# Altium footprint library 主板.PcbLib: 22 footprints (part 1 of 2)
Each footprint in its own frame and in the unit in brackets; x right, y up, seen from the top. Pads: shape width x height; smd on the part's side, far side on the other; paste and mask are expansions set on the pad; w line width, h text height; cw(c..) or ccw(c..) is an arc to the next point about the centre after c.
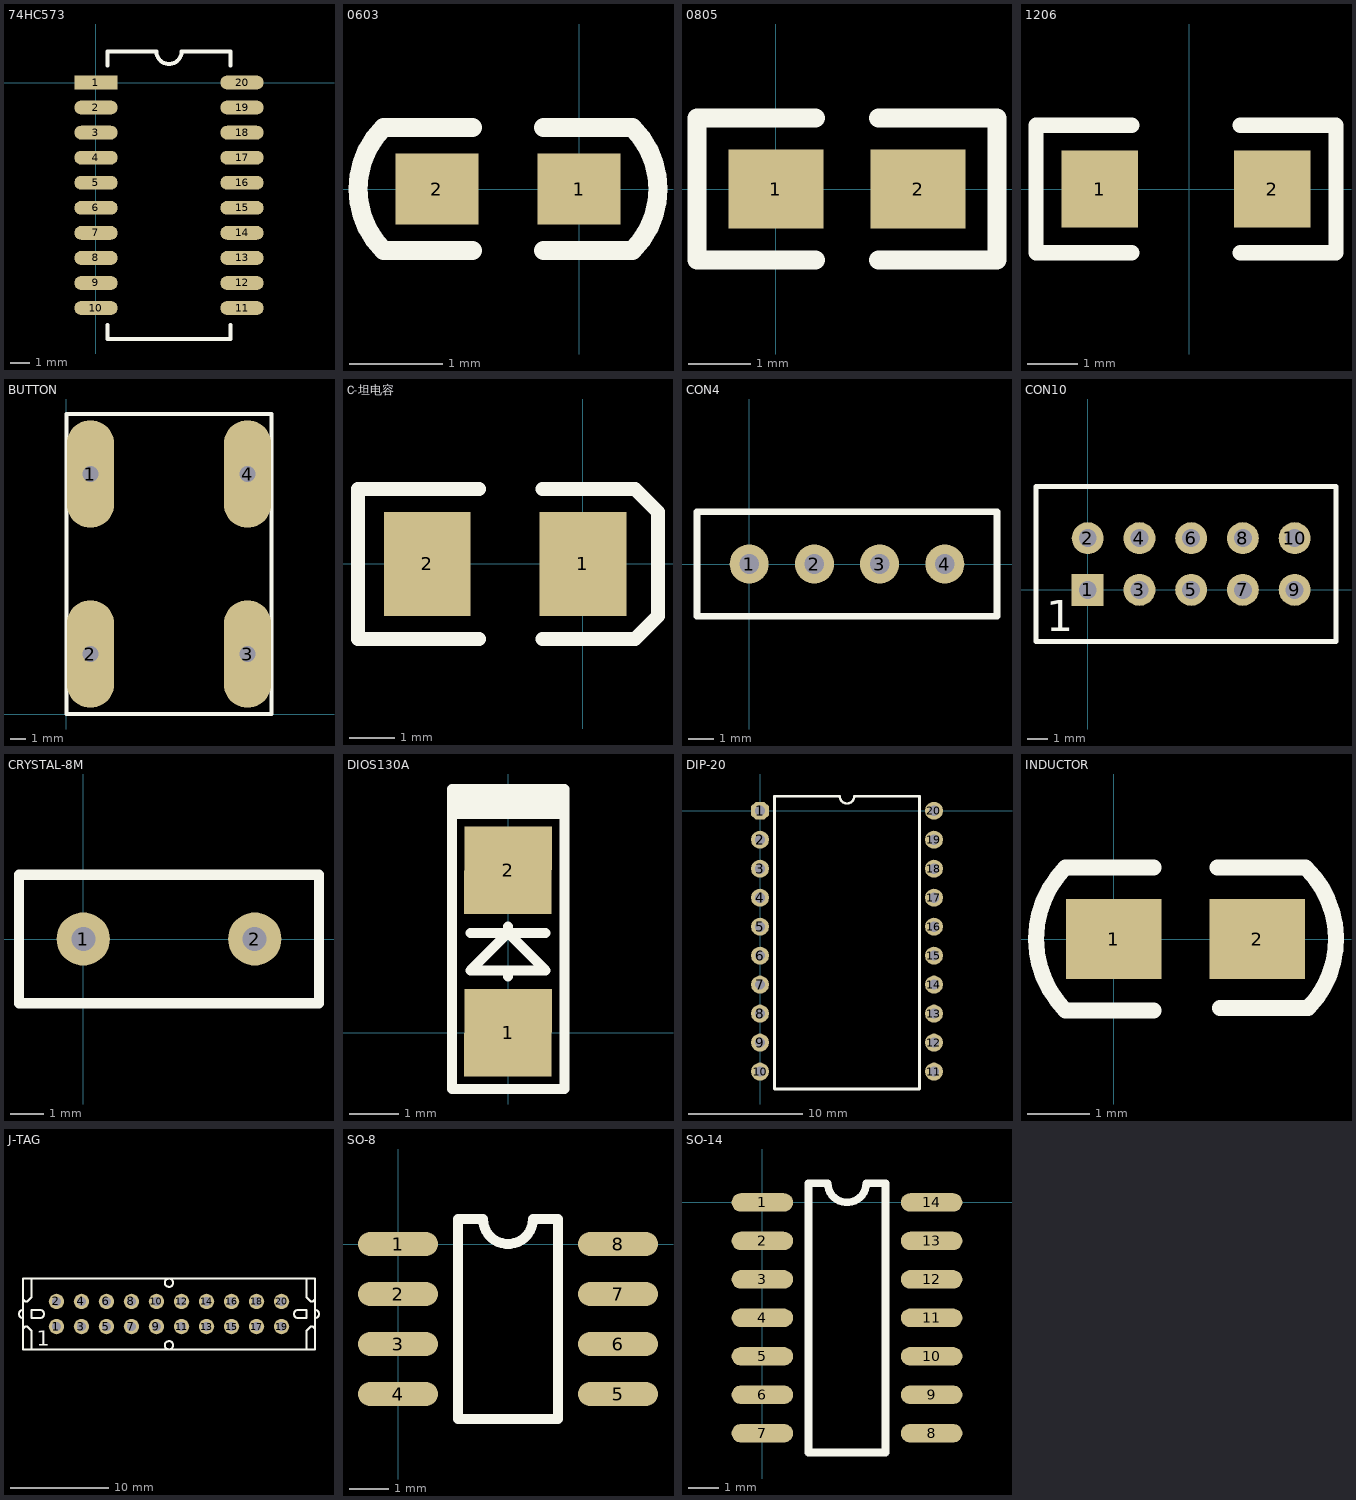
[diagram p0: the footprints below, top view; thin cyan lines are the x and y axes]

## 74HC573 [mm]
pads (20):
  rect 2.2x0.7 smd: 1(0,0)
  oval 2.2x0.7 smd: 2(0,-1.27) 3(0,-2.54) 4(0,-3.81) 5(0,-5.08) 6(0,-6.35) 7(0,-7.62) 8(0,-8.89) 9(0,-10.16) 10(0,-11.43) 11(7.4,-11.43) 12(7.4,-10.16) 13(7.4,-8.89) 14(7.4,-7.62) 15(7.4,-6.35) 16(7.4,-5.08) 17(7.4,-3.81) 18(7.4,-2.54) 19(7.4,-1.27) 20(7.4,0)
Top Overlay:
  lines w0.2: 0.59,-12.28 0.59,-13 6.81,-13 6.81,-12.28 ; 0.59,0.85 0.59,1.57 3.065,1.57 ccw(c3.7,1.57) 4.335,1.57 6.81,1.57 6.81,0.85

## 0603 [mil]
pads (2):
  rect 35x30 smd: 1(0,0) 2(-60,0)
Top Overlay:
  lines w8: -45,-26 -82.5,-26 cw(c-56.5,0) -82.5,26 -45,26 ; -15,-26 22.5,-26 ccw(c-3.5,0) 22.5,26 -15,26

## 0805 [mil]
pads (2):
  rect 60x50 smd: 1(0,0) 2(90,0)
Top Overlay:
  lines w12: 25,-45 -50,-45 -50,45 25,45 ; 65,-45 140,-45 140,45 65,45

## 1206 [mil]
pads (2):
  rect 60x60 smd: 1(-70,0) 2(65,0)
Top Overlay:
  lines w12: -45,-50 -120,-50 -120,50 -45,50 ; 40,-50 115,-50 115,50 40,50

## BUTTON [mm]
pads (4):
  oval 3x6.8 hole 1: 1(1.525,15.2) 2(1.525,3.8) 3(11.475,3.8) 4(11.475,15.2)
Top Overlay:
  lines w0.254: 0,0 13,0 13,19 0,19 0,0

## C-坦电容 [mil]
pads (2):
  rect 75x90 smd: 1(0,0) 2(-135,0)
Top Overlay:
  lines w12: -90,-65 -195,-65 -195,65 -90,65 ; -35,-65 45,-65 65,-45 65,45 45,65 -35,65

## CON4 [mil]
pads (4):
  round 60 hole 30: 1(0,0) 2(100,0) 3(200,0) 4(300,0)
Top Overlay:
  lines w10: -80,-80 380,-80 380,80 -80,80 -80,-80

## CON10 [mm]
pads (10):
  rect 1.57x1.57 hole 0.88: 1(0,0)
  round 1.57 hole 0.88: 2(0,2.54) 3(2.54,0) 4(2.54,2.54) 5(5.08,0) 6(5.08,2.54) 7(7.62,0) 8(7.62,2.54) 9(10.16,0) 10(10.16,2.54)
Top Overlay:
  lines w0.254: -2.54,-2.54 10.16,-2.54 12.192,-2.54 12.192,5.08 10.16,5.08 -2.54,5.08 -2.54,-2.54
  text "1" at -2.032,-2.032 h1.52

## CRYSTAL-8M [mil]
pads (2):
  round 62 hole 28: 1(0,0) 2(200,0)
Top Overlay:
  lines w12: -75,-75 -75,75 275,75 275,-75 -75,-75

## DIOS130A [mil]
pads (2):
  rect 70x70 smd: 1(0,0) 2(0,130)
Top Overlay:
  lines w8: -44,180 44,180 ; -44,190 45,190 ; -30,80 30,80 ; 0,45 0,50 ; 0,85 0,80 ; -45,175 -45,185 ; -45,175 45,175 ; -45,175 -45,-45 45,-45 45,175 ; -45,185 -45,195 45,195 45,185 ; -45,185 45,185 ; 0,80 30,50 -30,50 0,80 ; 45,175 45,185

## DIP-20 [mil]
pads (20):
  oct 62x62 hole 35: 1(0,0)
  round 62 hole 35: 2(0,-100) 3(0,-200) 4(0,-300) 5(0,-400) 6(0,-500) 7(0,-600) 8(0,-700) 9(0,-800) 10(0,-900) 11(600,-900) 12(600,-800) 13(600,-700) 14(600,-600) 15(600,-500) 16(600,-400) 17(600,-300) 18(600,-200) 19(600,-100) 20(600,0)
Top Overlay:
  lines w7.87: 50,50 275,50 ccw(c300,50) 325,50 550,50
  lines w10: 50,50 50,-960 550,-960 550,50

## INDUCTOR [mil]
pads (2):
  rect 60x50 smd: 1(0,0) 2(90,0)
Top Overlay:
  lines w10: 25,-45 -30.32,-45 cw(c14.69,0) -30.32,45 25,45 ; 65,45 120.31,45 cw(c77.03,-0.02) 122.05,-43.31 66.73,-43.31

## J-TAG [mil]
pads (20):
  round 62 hole 35: 1(8259.24,12578.88) 2(8259.24,12678.88) 3(8359.24,12578.88) 4(8359.24,12678.88) 5(8459.24,12578.88) 6(8459.24,12678.88) 7(8559.24,12578.88) 8(8559.24,12678.88) 9(8659.24,12578.88) 10(8659.24,12678.88) 11(8759.24,12578.88) 12(8759.24,12678.88) 13(8859.24,12578.88) 14(8859.24,12678.88) 15(8959.24,12578.88) 16(8959.24,12678.88) 17(9059.24,12578.88) 18(9059.24,12678.88) 19(9159.24,12578.88) 20(9159.24,12678.88)
Top Overlay:
  circle w8: c8709.24,12503.88 r16.67
  circle w8: c8709.24,12753.88 r16.67
  lines w8: 8125.9,12570.55 8134.24,12578.88 8142.57,12578.88 8159.24,12562.22 8159.24,12487.22 ; 8125.9,12612.22 cw(c8125.9,12628.88) 8125.9,12645.55 ; 8125.9,12687.22 8134.24,12678.88 8142.57,12678.88 8159.24,12695.55 8159.24,12770.55 ; 9259.24,12487.22 9259.24,12562.22 9275.9,12578.88 9284.24,12578.88 9292.57,12570.55 ; 9259.24,12770.55 9259.24,12695.55 9275.9,12678.88 9284.24,12678.88 9292.57,12687.22 ; 9292.57,12612.22 ccw(c9292.57,12628.88) 9292.57,12645.55 ; 8125.9,12487.22 8125.9,12770.55 9292.57,12770.55 9292.57,12487.22 8125.9,12487.22 ; 8159.24,12612.22 8159.24,12645.55 8192.57,12645.55 cw(c8192.57,12628.88) 8192.57,12612.22 8159.24,12612.22 ; 9225.9,12612.22 cw(c9225.9,12628.88) 9225.9,12645.55 9259.24,12645.55 9259.24,12612.22 9225.9,12612.22
  text "1" at 8180.24,12501.88 h60

## PCBComponent_1 [mm]

## SO-8 [mil]
pads (8):
  oval 80x24 smd: 1(0,0) 2(0,-50) 3(0,-100) 4(0,-150) 5(220,-150) 6(220,-100) 7(220,-50) 8(220,0)
Top Overlay:
  lines w10: 60,-175 160,-175 160,25 135,25 cw(c110,25) 85,25 60,25 60,-175

## SO-14 [mil]
pads (14):
  oval 80x24 smd: 1(0,0) 2(0,-50) 3(0,-100) 4(0,-150) 5(0,-200) 6(0,-250) 7(0,-300) 8(220,-300) 9(220,-250) 10(220,-200) 11(220,-150) 12(220,-100) 13(220,-50) 14(220,0)
Top Overlay:
  lines w10: 60,-325 160,-325 160,25 135,25 cw(c110,25) 85,25 60,25 60,-325